# Altium schematic symbol library usb.SchLib: 1 symbol
Pins are listed as number, name and electrical type; pins without a type are passive.

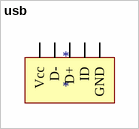
[diagram p0: symbol usb]

## usb
designator *
usb
footprint USB_vertical
footprint USB_Horizontal
pins: 1 Vcc, 2 D-, 3 D+, 4 ID, 5 GND